# EAGLE library part RASPBERRY_CM5 (library ds_ic_peripherals)
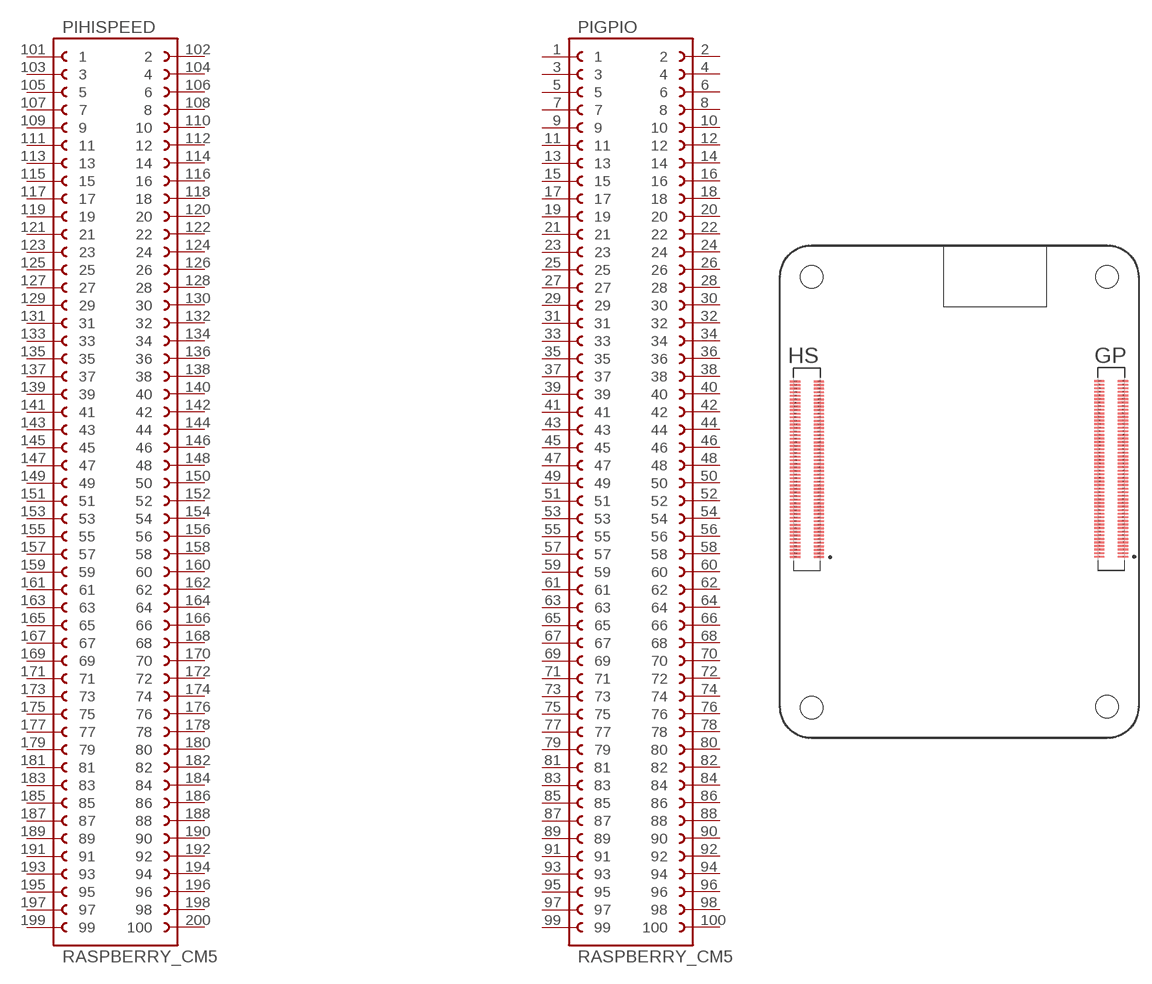
[diagram p64: symbol with the pads of CM5; footprint CM5]

Designator prefix PI; gates HISPEED=RASPBERRY_CM5 GPIO=RASPBERRY_CM5

## RASPBERRY_CM5  [CM5]
1  GPIO:1  pas
2  GPIO:2  pas
3  GPIO:3  pas
4  GPIO:4  pas
5  GPIO:5  pas
6  GPIO:6  pas
7  GPIO:7  pas
8  GPIO:8  pas
9  GPIO:9  pas
10  GPIO:10  pas
11  GPIO:11  pas
12  GPIO:12  pas
13  GPIO:13  pas
14  GPIO:14  pas
15  GPIO:15  pas
16  GPIO:16  pas
17  GPIO:17  pas
18  GPIO:18  pas
19  GPIO:19  pas
20  GPIO:20  pas
21  GPIO:21  pas
22  GPIO:22  pas
23  GPIO:23  pas
24  GPIO:24  pas
25  GPIO:25  pas
26  GPIO:26  pas
27  GPIO:27  pas
28  GPIO:28  pas
29  GPIO:29  pas
30  GPIO:30  pas
31  GPIO:31  pas
32  GPIO:32  pas
33  GPIO:33  pas
34  GPIO:34  pas
35  GPIO:35  pas
36  GPIO:36  pas
37  GPIO:37  pas
38  GPIO:38  pas
39  GPIO:39  pas
40  GPIO:40  pas
41  GPIO:41  pas
42  GPIO:42  pas
43  GPIO:43  pas
44  GPIO:44  pas
45  GPIO:45  pas
46  GPIO:46  pas
47  GPIO:47  pas
48  GPIO:48  pas
49  GPIO:49  pas
50  GPIO:50  pas
51  GPIO:51  pas
52  GPIO:52  pas
53  GPIO:53  pas
54  GPIO:54  pas
55  GPIO:55  pas
56  GPIO:56  pas
57  GPIO:57  pas
58  GPIO:58  pas
59  GPIO:59  pas
60  GPIO:60  pas
61  GPIO:61  pas
62  GPIO:62  pas
63  GPIO:63  pas
64  GPIO:64  pas
65  GPIO:65  pas
66  GPIO:66  pas
67  GPIO:67  pas
68  GPIO:68  pas
69  GPIO:69  pas
70  GPIO:70  pas
71  GPIO:71  pas
72  GPIO:72  pas
73  GPIO:73  pas
74  GPIO:74  pas
75  GPIO:75  pas
76  GPIO:76  pas
77  GPIO:77  pas
78  GPIO:78  pas
79  GPIO:79  pas
80  GPIO:80  pas
81  GPIO:81  pas
82  GPIO:82  pas
83  GPIO:83  pas
84  GPIO:84  pas
85  GPIO:85  pas
86  GPIO:86  pas
87  GPIO:87  pas
88  GPIO:88  pas
89  GPIO:89  pas
90  GPIO:90  pas
91  GPIO:91  pas
92  GPIO:92  pas
93  GPIO:93  pas
94  GPIO:94  pas
95  GPIO:95  pas
96  GPIO:96  pas
97  GPIO:97  pas
98  GPIO:98  pas
99  GPIO:99  pas
100  GPIO:100  pas
101  HISPEED:1  pas
102  HISPEED:2  pas
103  HISPEED:3  pas
104  HISPEED:4  pas
105  HISPEED:5  pas
106  HISPEED:6  pas
107  HISPEED:7  pas
108  HISPEED:8  pas
109  HISPEED:9  pas
110  HISPEED:10  pas
111  HISPEED:11  pas
112  HISPEED:12  pas
113  HISPEED:13  pas
114  HISPEED:14  pas
115  HISPEED:15  pas
116  HISPEED:16  pas
117  HISPEED:17  pas
118  HISPEED:18  pas
119  HISPEED:19  pas
120  HISPEED:20  pas
121  HISPEED:21  pas
122  HISPEED:22  pas
123  HISPEED:23  pas
124  HISPEED:24  pas
125  HISPEED:25  pas
126  HISPEED:26  pas
127  HISPEED:27  pas
128  HISPEED:28  pas
129  HISPEED:29  pas
130  HISPEED:30  pas
131  HISPEED:31  pas
132  HISPEED:32  pas
133  HISPEED:33  pas
134  HISPEED:34  pas
135  HISPEED:35  pas
136  HISPEED:36  pas
137  HISPEED:37  pas
138  HISPEED:38  pas
139  HISPEED:39  pas
140  HISPEED:40  pas
141  HISPEED:41  pas
142  HISPEED:42  pas
143  HISPEED:43  pas
144  HISPEED:44  pas
145  HISPEED:45  pas
146  HISPEED:46  pas
147  HISPEED:47  pas
148  HISPEED:48  pas
149  HISPEED:49  pas
150  HISPEED:50  pas
151  HISPEED:51  pas
152  HISPEED:52  pas
153  HISPEED:53  pas
154  HISPEED:54  pas
155  HISPEED:55  pas
156  HISPEED:56  pas
157  HISPEED:57  pas
158  HISPEED:58  pas
159  HISPEED:59  pas
160  HISPEED:60  pas
161  HISPEED:61  pas
162  HISPEED:62  pas
163  HISPEED:63  pas
164  HISPEED:64  pas
165  HISPEED:65  pas
166  HISPEED:66  pas
167  HISPEED:67  pas
168  HISPEED:68  pas
169  HISPEED:69  pas
170  HISPEED:70  pas
171  HISPEED:71  pas
172  HISPEED:72  pas
173  HISPEED:73  pas
174  HISPEED:74  pas
175  HISPEED:75  pas
176  HISPEED:76  pas
177  HISPEED:77  pas
178  HISPEED:78  pas
179  HISPEED:79  pas
180  HISPEED:80  pas
181  HISPEED:81  pas
182  HISPEED:82  pas
183  HISPEED:83  pas
184  HISPEED:84  pas
185  HISPEED:85  pas
186  HISPEED:86  pas
187  HISPEED:87  pas
188  HISPEED:88  pas
189  HISPEED:89  pas
190  HISPEED:90  pas
191  HISPEED:91  pas
192  HISPEED:92  pas
193  HISPEED:93  pas
194  HISPEED:94  pas
195  HISPEED:95  pas
196  HISPEED:96  pas
197  HISPEED:97  pas
198  HISPEED:98  pas
199  HISPEED:99  pas
200  HISPEED:100  pas

## Footprint CM5 (pad centres in mm)
smd 1.14 x 0.2: 1 17.9,-7.22; 2 15.26,-7.22; 3 17.9,-6.82; 4 15.26,-6.82; 5 17.9,-6.42; 6 15.26,-6.42; 7 17.9,-6.02; 8 15.26,-6.02; 9 17.9,-5.62; 10 15.26,-5.62; 11 17.9,-5.22; 12 15.26,-5.22; 13 17.9,-4.82; 14 15.26,-4.82; 15 17.9,-4.42; 16 15.26,-4.42; 17 17.9,-4.02; 18 15.26,-4.02; 19 17.9,-3.62; 20 15.26,-3.62; 21 17.9,-3.22; 22 15.26,-3.22; 23 17.9,-2.82; 24 15.26,-2.82; 25 17.9,-2.42; 26 15.26,-2.42; 27 17.9,-2.02; 28 15.26,-2.02; 29 17.9,-1.62; 30 15.26,-1.62; 31 17.9,-1.22; 32 15.26,-1.22; 33 17.9,-0.82; 34 15.26,-0.82; 35 17.9,-0.42; 36 15.26,-0.42; 37 17.9,-0.02; 38 15.26,-0.02; 39 17.9,0.38; 40 15.26,0.38; 41 17.9,0.78; 42 15.26,0.78; 43 17.9,1.18; 44 15.26,1.18; 45 17.9,1.58; 46 15.26,1.58; 47 17.9,1.98; 48 15.26,1.98; 49 17.9,2.38; 50 15.26,2.38; 51 17.9,2.78; 52 15.26,2.78; 53 17.9,3.18; 54 15.26,3.18; 55 17.9,3.58; 56 15.26,3.58; 57 17.9,3.98; 58 15.26,3.98; 59 17.9,4.38; 60 15.26,4.38; 61 17.9,4.78; 62 15.26,4.78; 63 17.9,5.18; 64 15.26,5.18; 65 17.9,5.58; 66 15.26,5.58; 67 17.9,5.98; 68 15.26,5.98; 69 17.9,6.38; 70 15.26,6.38; 71 17.9,6.78; 72 15.26,6.78; 73 17.9,7.18; 74 15.26,7.18; 75 17.9,7.58; 76 15.26,7.58; 77 17.9,7.98; 78 15.26,7.98; 79 17.9,8.38; 80 15.26,8.38; 81 17.9,8.78; 82 15.26,8.78; 83 17.9,9.18; 84 15.26,9.18; 85 17.9,9.58; 86 15.26,9.58; 87 17.9,9.98; 88 15.26,9.98; 89 17.9,10.38; 90 15.26,10.38; 91 17.9,10.78; 92 15.26,10.78; 93 17.9,11.18; 94 15.26,11.18; 95 17.9,11.58; 96 15.26,11.58; 97 17.9,11.98; 98 15.26,11.98; 99 17.9,12.38; 100 15.26,12.38; 101 -16.041,-7.26; 102 -18.681,-7.26; 103 -16.041,-6.86; 104 -18.681,-6.86; 105 -16.041,-6.46; 106 -18.681,-6.46; 107 -16.041,-6.06; 108 -18.681,-6.06; 109 -16.041,-5.66; 110 -18.681,-5.66; 111 -16.041,-5.26; 112 -18.681,-5.26; 113 -16.041,-4.86; 114 -18.681,-4.86; 115 -16.041,-4.46; 116 -18.681,-4.46; 117 -16.041,-4.06; 118 -18.681,-4.06; 119 -16.041,-3.66; 120 -18.681,-3.66; 121 -16.041,-3.26; 122 -18.681,-3.26; 123 -16.041,-2.86; 124 -18.681,-2.86; 125 -16.041,-2.46; 126 -18.681,-2.46; 127 -16.041,-2.06; 128 -18.681,-2.06; 129 -16.041,-1.66; 130 -18.681,-1.66; 131 -16.041,-1.26; 132 -18.681,-1.26; 133 -16.041,-0.86; 134 -18.681,-0.86; 135 -16.041,-0.46; 136 -18.681,-0.46; 137 -16.041,-0.06; 138 -18.681,-0.06; 139 -16.041,0.34; 140 -18.681,0.34; 141 -16.041,0.74; 142 -18.681,0.74; 143 -16.041,1.14; 144 -18.681,1.14; 145 -16.041,1.54; 146 -18.681,1.54; 147 -16.041,1.94; 148 -18.681,1.94; 149 -16.041,2.34; 150 -18.681,2.34; 151 -16.041,2.74; 152 -18.681,2.74; 153 -16.041,3.14; 154 -18.681,3.14; 155 -16.041,3.54; 156 -18.681,3.54; 157 -16.041,3.94; 158 -18.681,3.94; 159 -16.041,4.34; 160 -18.681,4.34; 161 -16.041,4.74; 162 -18.681,4.74; 163 -16.041,5.14; 164 -18.681,5.14; 165 -16.041,5.54; 166 -18.681,5.54; 167 -16.041,5.94; 168 -18.681,5.94; 169 -16.041,6.34; 170 -18.681,6.34; 171 -16.041,6.74; 172 -18.681,6.74; 173 -16.041,7.14; 174 -18.681,7.14; 175 -16.041,7.54; 176 -18.681,7.54; 177 -16.041,7.94; 178 -18.681,7.94; 179 -16.041,8.34; 180 -18.681,8.34; 181 -16.041,8.74; 182 -18.681,8.74; 183 -16.041,9.14; 184 -18.681,9.14; 185 -16.041,9.54; 186 -18.681,9.54; 187 -16.041,9.94; 188 -18.681,9.94; 189 -16.041,10.34; 190 -18.681,10.34; 191 -16.041,10.74; 192 -18.681,10.74; 193 -16.041,11.14; 194 -18.681,11.14; 195 -16.041,11.54; 196 -18.681,11.54; 197 -16.041,11.94; 198 -18.681,11.94; 199 -16.041,12.34; 200 -18.681,12.34
hole 2.5 at -16.86,24.04
hole 2.5 at 16.14,24.04
hole 2.5 at -16.86,-24.06
hole 2.5 at 16.14,-23.96